# Altium footprint library CONN-SPE-0908007124_Harting.PcbLib: 1 footprints
Each footprint in its own frame and in the unit in brackets; x right, y up, seen from the top. Pads: shape width x height; smd on the part's side, far side on the other; paste and mask are expansions set on the pad; w line width, h text height; cw(c..) or ccw(c..) is an arc to the next point about the centre after c.
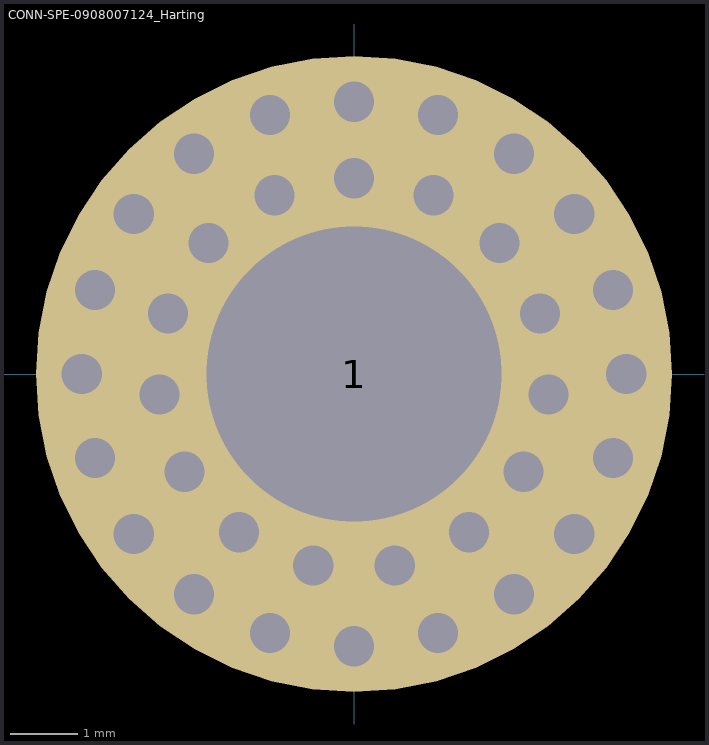
[diagram p0: the footprint, top view; thin cyan lines are the x and y axes]

## CONN-SPE-0908007124_Harting [mm]
pads (1):
  round 9.5 hole 4.4: 1(0,0)
via 1.256,3.865 diameter 1 hole 0.6
via 2.389,3.288 diameter 1 hole 0.6
via 3.288,2.389 diameter 1 hole 0.6
via 3.865,1.256 diameter 1 hole 0.6
via 4.064,0 diameter 1 hole 0.6
via 3.865,-1.256 diameter 1 hole 0.6
via 3.288,-2.389 diameter 1 hole 0.6
via 2.389,-3.288 diameter 1 hole 0.6
via 1.256,-3.865 diameter 1 hole 0.6
via 0,-4.064 diameter 1 hole 0.6
via -1.256,-3.865 diameter 1 hole 0.6
via -2.389,-3.288 diameter 1 hole 0.6
via -3.288,-2.389 diameter 1 hole 0.6
via -3.865,-1.256 diameter 1 hole 0.6
via -4.064,0 diameter 1 hole 0.6
via -3.865,1.256 diameter 1 hole 0.6
via -3.288,2.389 diameter 1 hole 0.6
via -2.389,3.288 diameter 1 hole 0.6
via -1.256,3.865 diameter 1 hole 0.6
via 0,4.064 diameter 1 hole 0.6
via 1.188,2.668 diameter 1 hole 0.6
via 2.171,1.955 diameter 1 hole 0.6
via 2.778,0.903 diameter 1 hole 0.6
via 2.905,-0.305 diameter 1 hole 0.6
via 2.53,-1.46 diameter 1 hole 0.6
via 1.717,-2.363 diameter 1 hole 0.6
via 0.607,-2.857 diameter 1 hole 0.6
via -0.607,-2.857 diameter 1 hole 0.6
via -1.717,-2.363 diameter 1 hole 0.6
via -2.53,-1.46 diameter 1 hole 0.6
via -2.905,-0.305 diameter 1 hole 0.6
via -2.778,0.903 diameter 1 hole 0.6
via -2.171,1.955 diameter 1 hole 0.6
via -1.188,2.668 diameter 1 hole 0.6
via 0,2.921 diameter 1 hole 0.6
via 0,2.921 diameter 1 hole 0.6
via 0,4.064 diameter 1 hole 0.6
3D body: height 16.6, standoff -3.8, extent -4.283,-4.3 4.318,4.3